# Altium integrated library SIMPLIS Devices.IntLib: 63 symbols
Pins are listed as number, name and electrical type; pins without a type are passive.

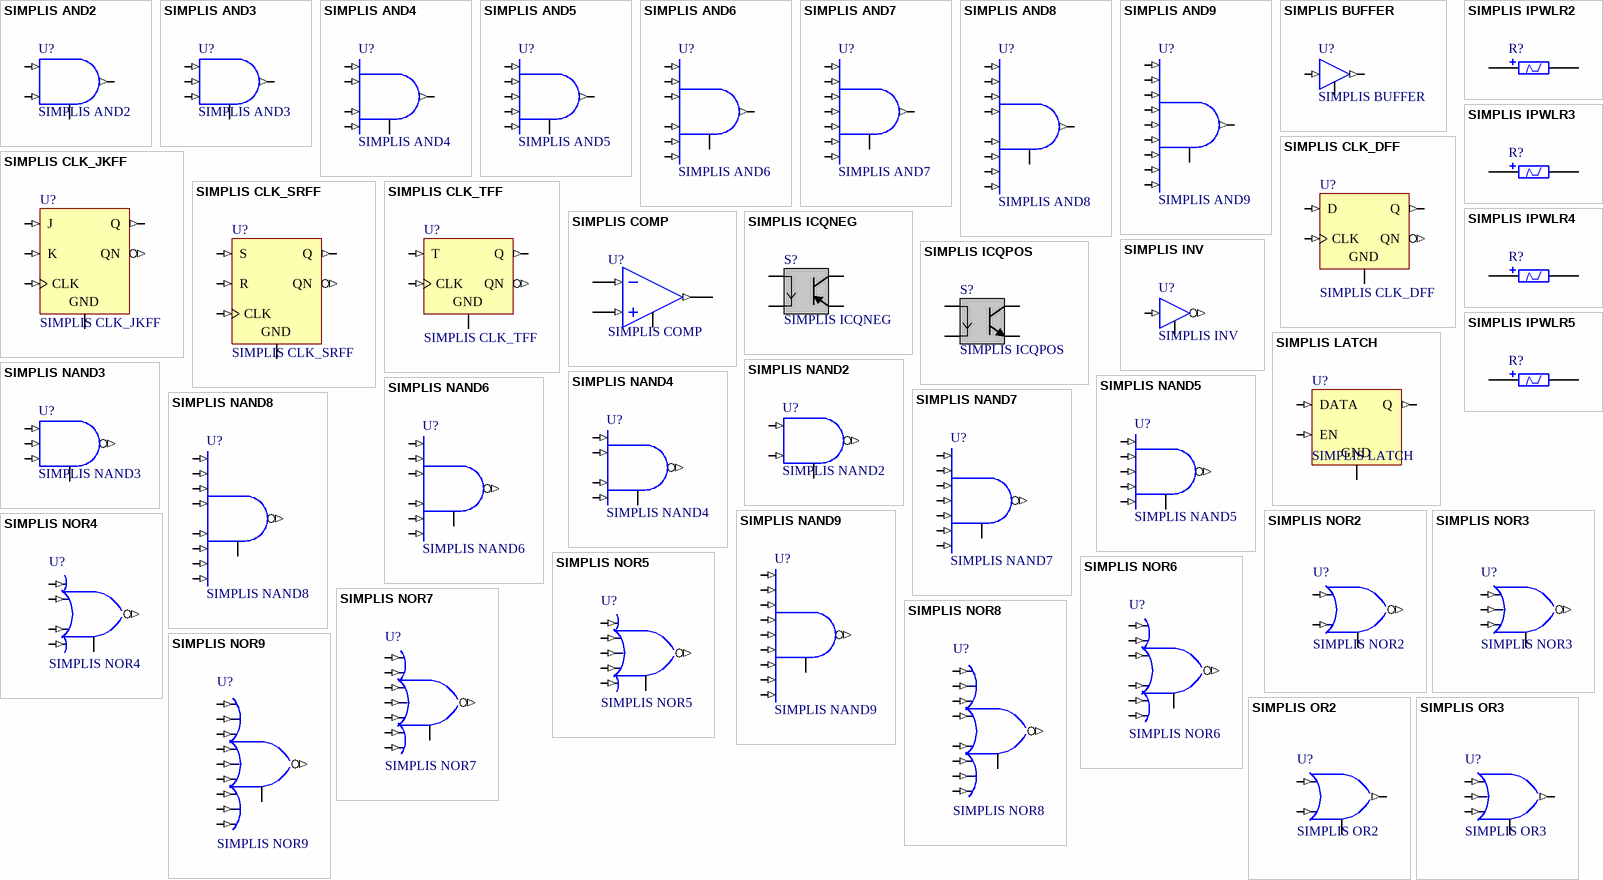
[diagram p0: symbols SIMPLIS AND2 to SIMPLIS OR3]

## SIMPLIS AND2
designator U?
2-Input AND Gate; FunctionalClass: Logic Primitive; PortSize: 2; PortStyle: Single Pin Version; ArchiveName: GENERIC; VHDLIB_SIM: GENERIC_LIB; Published: 29-Jan-2004; Publisher: Altium Limited; XilinxEquivalent: AND2; LastRevisionNo: 1.00.00; HelpURL: CR0118 FPGA Generic Library Guide.pdf#page=114; ComponentLink1URL: CR0136 FPGA Logic Primitive Resource Usage.pdf#page=13; ComponentLink1Description: Core &Resource Usage; SubClass: AND
simulation model SIMPLIS_AND2 (2-input AND Gate)
pins: 100 GND, 101 IN1 (in), 102 IN2 (in), 201 OUT (out)

## SIMPLIS AND3
designator U?
3-Input AND Gate; FunctionalClass: Logic Primitive; PortSize: 3; PortStyle: Single Pin Version; ArchiveName: GENERIC; VHDLIB_SIM: GENERIC_LIB; Published: 29-Jan-2004; Publisher: Altium Limited; XilinxEquivalent: AND3; LastRevisionNo: 1.00.00; HelpURL: CR0118 FPGA Generic Library Guide.pdf#page=114; ComponentLink1URL: CR0136 FPGA Logic Primitive Resource Usage.pdf#page=23; ComponentLink1Description: Core &Resource Usage; SubClass: AND
simulation model SIMPLIS_AND3 (3-input AND Gate)
pins: 100 GND, 101 IN1 (in), 102 IN2 (in), 103 IN3 (in), 201 OUT (out)

## SIMPLIS AND4
designator U?
4-Input AND Gate; FunctionalClass: Logic Primitive; PortSize: 4; PortStyle: Single Pin Version; ArchiveName: GENERIC; VHDLIB_SIM: GENERIC_LIB; Published: 29-Jan-2004; Publisher: Altium Limited; XilinxEquivalent: AND4; LastRevisionNo: 1.00.00; HelpURL: CR0118 FPGA Generic Library Guide.pdf#page=114; ComponentLink1URL: CR0136 FPGA Logic Primitive Resource Usage.pdf#page=35; ComponentLink1Description: Core &Resource Usage; SubClass: AND
simulation model SIMPLIS_AND4 (4-input AND Gate)
pins: 100 GND, 101 IN1 (in), 102 IN2 (in), 103 IN3 (in), 104 IN4 (in), 201 OUT (out)

## SIMPLIS AND5
designator U?
5-Input AND Gate; FunctionalClass: Logic Primitive; PortSize: 5; PortStyle: Single Pin Version; ArchiveName: GENERIC; VHDLIB_SIM: GENERIC_LIB; Published: 29-Jan-2004; Publisher: Altium Limited; XilinxEquivalent: AND5; LastRevisionNo: 1.00.00; HelpURL: CR0118 FPGA Generic Library Guide.pdf#page=114; ComponentLink1URL: CR0136 FPGA Logic Primitive Resource Usage.pdf#page=47; ComponentLink1Description: Core &Resource Usage; SubClass: AND
simulation model SIMPLIS_AND5 (5-input AND Gate)
pins: 100 GND, 101 IN1 (in), 102 IN2 (in), 103 IN3 (in), 104 IN4 (in), 105 IN5 (in), 201 OUT (out)

## SIMPLIS AND6
designator U?
6-Input AND Gate; FunctionalClass: Logic Primitive; PortSize: 6; PortStyle: Single Pin Version; ArchiveName: GENERIC; VHDLIB_SIM: GENERIC_LIB; Published: 29-Jan-2004; Publisher: Altium Limited; XilinxEquivalent: AND6; LastRevisionNo: 1.00.00; HelpURL: CR0118 FPGA Generic Library Guide.pdf#page=114; ComponentLink1URL: CR0136 FPGA Logic Primitive Resource Usage.pdf#page=49; ComponentLink1Description: Core &Resource Usage; SubClass: AND
simulation model SIMPLIS_AND6 (6-input AND Gate)
pins: 100 GND, 101 IN1 (in), 102 IN2 (in), 103 IN3 (in), 104 IN4 (in), 105 IN5 (in), 106 IN6 (in), 201 OUT (out)

## SIMPLIS AND7
designator U?
7-Input AND Gate; FunctionalClass: Logic Primitive; PortSize: 7; PortStyle: Single Pin Version; ArchiveName: GENERIC; VHDLIB_SIM: GENERIC_LIB; Published: 29-Jan-2004; Publisher: Altium Limited; XilinxEquivalent: AND7; LastRevisionNo: 1.00.00; HelpURL: CR0118 FPGA Generic Library Guide.pdf#page=114; ComponentLink1URL: CR0136 FPGA Logic Primitive Resource Usage.pdf#page=51; ComponentLink1Description: Core &Resource Usage; SubClass: AND
simulation model SIMPLIS_AND7 (7-input AND Gate)
pins: 100 GND, 101 IN1 (in), 102 IN2 (in), 103 IN3 (in), 104 IN4 (in), 105 IN5 (in), 106 IN6 (in), 107 IN7 (in), 201 OUT (out)

## SIMPLIS AND8
designator U?
8-Input AND Gate; FunctionalClass: Logic Primitive; PortSize: 8; PortStyle: Single Pin Version; ArchiveName: GENERIC; VHDLIB_SIM: GENERIC_LIB; Published: 29-Jan-2004; Publisher: Altium Limited; XilinxEquivalent: AND8; LastRevisionNo: 1.00.00; HelpURL: CR0118 FPGA Generic Library Guide.pdf#page=114; ComponentLink1URL: CR0136 FPGA Logic Primitive Resource Usage.pdf#page=53; ComponentLink1Description: Core &Resource Usage; SubClass: AND
simulation model SIMPLIS_AND8 (8-input AND Gate)
pins: 100 GND, 101 IN1 (in), 102 IN2 (in), 103 IN3 (in), 104 IN4 (in), 105 IN5 (in), 106 IN6 (in), 107 IN7 (in), 108 IN8 (in), 201 OUT (out)

## SIMPLIS AND9
designator U?
9-Input AND Gate; FunctionalClass: Logic Primitive; PortSize: 9; PortStyle: Single Pin Version; ArchiveName: GENERIC; VHDLIB_SIM: GENERIC_LIB; Published: 29-Jan-2004; Publisher: Altium Limited; XilinxEquivalent: AND9; LastRevisionNo: 1.00.00; HelpURL: CR0118 FPGA Generic Library Guide.pdf#page=114; ComponentLink1URL: CR0136 FPGA Logic Primitive Resource Usage.pdf#page=55; ComponentLink1Description: Core &Resource Usage; SubClass: AND
simulation model SIMPLIS_AND9 (9-input AND Gate)
pins: 100 GND, 101 IN1 (in), 102 IN2 (in), 103 IN3 (in), 104 IN4 (in), 105 IN5 (in), 106 IN6 (in), 107 IN7 (in), 108 IN8 (in), 109 IN9 (in), 201 OUT (out)

## SIMPLIS BUFFER
designator U?
Non-Inverting Buffer; XilinxEquivalent: BUF; ArchiveName: GENERIC; VHDLIB_SIM: GENERIC_LIB; Published: 29-Jan-2004; Publisher: Altium Limited; LastRevisionNo: 1.00.00; HelpURL: CR0118 FPGA Generic Library Guide.pdf#page=122; ComponentLink1URL: CR0125 FPGA Buffer Resource Usage.pdf#page=3; ComponentLink1Description: Core &Resource Usage; FunctionalClass: Buffer; SubClass: BUF
simulation model SIMPLIS_BUFFER (Buffer)
pins: 100 GND, 101 IN (in), 201 OUT (out)

## SIMPLIS CLK_DFF
designator U?
D-type Flip-Flop; SubClass: T; ClockTrigger: Rising; Enable: High; Reset: Asynchronous; FunctionalClass: Flip-Flop
simulation model SIMPLIS_DFF (D-type Flip-Flop)
pins: 100 GND, 101 D (in), 191 CLK (in), 201 Q (out), 202 QN (out)

## SIMPLIS CLK_JKFF
designator U?
J-K Flip-Flop; SubClass: JK; ClockTrigger: Rising; Reset: Asynchronous; ArchiveName: GENERIC; VHDLIB_SIM: GENERIC_LIB; Published: 29-Jan-2004; Publisher: Altium Limited; LastRevisionNo: 1.00.00; HelpURL: CR0118 FPGA Generic Library Guide.pdf#page=233; ComponentLink1URL: CR0133 FPGA Flip Flop Resource Usage.pdf#page=201; ComponentLink1Description: Core &Resource Usage; FunctionalClass: Flip-Flop
simulation model SIMPLIS_JKFF (JK Flip-Flop)
pins: 100 GND, 101 J (in), 102 K (in), 191 CLK (in), 201 Q (out), 202 QN (out)

## SIMPLIS CLK_SRFF
designator U?
S-R Flip-Flop; SubClass: JK; ClockTrigger: Rising; Reset: Asynchronous; ArchiveName: GENERIC; VHDLIB_SIM: GENERIC_LIB; Published: 29-Jan-2004; Publisher: Altium Limited; LastRevisionNo: 1.00.00; HelpURL: CR0118 FPGA Generic Library Guide.pdf#page=233; ComponentLink1URL: CR0133 FPGA Flip Flop Resource Usage.pdf#page=201; ComponentLink1Description: Core &Resource Usage; FunctionalClass: Flip-Flop
simulation model SIMPLIS_CLK_SRFF (SR Flip-Flop)
pins: 100 GND, 101 S (in), 102 R (in), 191 CLK (in), 201 Q (out), 202 QN (out)

## SIMPLIS CLK_TFF
designator U?
Toggle Flip-Flop; SubClass: T; ClockTrigger: Rising; Enable: High; Reset: Asynchronous; FunctionalClass: Flip-Flop
simulation model SIMPLIS_TFF (Toggle Flip-Flop)
simulation model SIMPLIS_TFF (Toggle Flip-Flop)
pins: 100 GND, 101 T (in), 191 CLK (in), 201 Q (out), 202 QN (out)

## SIMPLIS COMP
designator U?
Analog Voltage Comparator; XilinxEquivalent: XNOR2; FunctionalClass: Logic Primitive; SubClass: XNOR; PortSize: 2; PortStyle: Single Pin Version; ArchiveName: GENERIC; VHDLIB_SIM: GENERIC_LIB; Published: 29-Jan-2004; Publisher: Altium Limited; LastRevisionNo: 1.00.00; HelpURL: CR0118 FPGA Generic Library Guide.pdf#page=445; ComponentLink1URL: CR0136 FPGA Logic Primitive Resource Usage.pdf#page=252; ComponentLink1Description: Core &Resource Usage
simulation model SIMPLIS_COMP (Comparator)
pins: 100 GND, 101 IN+ (in), 102 IN- (in), 201 OUT (out)

## SIMPLIS ICQNEG
designator S?
Current Controlled Transistor Switch; Published: 8-Jun-2000; LatestRevisionDate: 17-Jul-2002; LatestRevisionNote: Re-released for DXP Platform.; PackageReference: Not Applicable; Publisher: Altium Limited
simulation model SIMPLIS_ICQNEG (current-controlled transistor switch)
pins: 1 N1+, 2 N1-, 3 N2+, 4 N2-

## SIMPLIS ICQPOS
designator S?
Current Controlled Transistor Switch; Published: 8-Jun-2000; LatestRevisionDate: 17-Jul-2002; LatestRevisionNote: Re-released for DXP Platform.; PackageReference: Not Applicable; Publisher: Altium Limited
simulation model SIMPLIS_ICQPOS (current-controlled transistor switch)
pins: 1 N1+, 2 N1-, 3 N2+, 4 N2-

## SIMPLIS INV
designator U?
Inverter; FunctionalClass: Logic Primitive; ArchiveName: GENERIC; VHDLIB_SIM: GENERIC_LIB; Published: 29-Jan-2004; Publisher: Altium Limited; XilinxEquivalent: INV; LastRevisionNo: 1.00.00; HelpURL: CR0118 FPGA Generic Library Guide.pdf#page=291; ComponentLink1URL: CR0136 FPGA Logic Primitive Resource Usage.pdf#page=61; ComponentLink1Description: Core &Resource Usage; SubClass: INV
simulation model SIMPLIS_INV (Inverter)
pins: 100 GND, 101 IN1 (in), 201 OUT (out)

## SIMPLIS IPWLR2
designator R?  (value not drawn)
Current-Controlled Piecewise Linear Resistor (2-segment); Published: 24-Mar-1999; LatestRevisionDate: 04-Mar-2005; LatestRevisionNote: PCB Footprint replaced.; PackageReference: 6-0805; Publisher: Altium Limited
simulation model SIMPLIS_IPWLR2 (Current-controlled piecewise linear resistor)
pins: 1, 2

## SIMPLIS IPWLR3
designator R?  (value not drawn)
Current-Controlled Piecewise Linear Resistor (3-segment); Published: 24-Mar-1999; LatestRevisionDate: 04-Mar-2005; LatestRevisionNote: PCB Footprint replaced.; PackageReference: 6-0805; Publisher: Altium Limited
simulation model SIMPLIS_IPWLR3 (Current-controlled piecewise linear resistor)
pins: 1, 2

## SIMPLIS IPWLR4
designator R?  (value not drawn)
Current-Controlled Piecewise Linear Resistor (4-segment); Published: 24-Mar-1999; LatestRevisionDate: 04-Mar-2005; LatestRevisionNote: PCB Footprint replaced.; PackageReference: 6-0805; Publisher: Altium Limited
simulation model SIMPLIS_IPWLR4 (Current-controlled piecewise linear resistor)
pins: 1, 2

## SIMPLIS IPWLR5
designator R?  (value not drawn)
Current-Controlled Piecewise Linear Resistor (5-segment); Published: 24-Mar-1999; LatestRevisionDate: 04-Mar-2005; LatestRevisionNote: PCB Footprint replaced.; PackageReference: 6-0805; Publisher: Altium Limited
simulation model SIMPLIS_IPWLR5 (Current-controlled piecewise linear resistor)
pins: 1, 2

## SIMPLIS LATCH
designator U?
Transparent Data Latch; XilinxEquivalent: LD; ArchiveName: GENERIC; VHDLIB_SIM: GENERIC_LIB; Published: 29-Jan-2004; Publisher: Altium Limited; LastRevisionNo: 1.00.00; HelpURL: CR0118 FPGA Generic Library Guide.pdf#page=310; ComponentLink1URL: CR0135 FPGA Latch Resource Usage.pdf#page=2; ComponentLink1Description: Core &Resource Usage; FunctionalClass: Latch
simulation model SIMPLIS_LATCH (LATCH)
pins: 100 GND, 101 DATA (in), 191 EN (in), 201 Q (out)

## SIMPLIS NAND2
designator U?
2-Input NAND Gate; FunctionalClass: Logic Primitive; PortSize: 2; PortStyle: Single Pin Version; ArchiveName: GENERIC; VHDLIB_SIM: GENERIC_LIB; Published: 29-Jan-2004; Publisher: Altium Limited; XilinxEquivalent: NAND2; LastRevisionNo: 1.00.00; HelpURL: CR0118 FPGA Generic Library Guide.pdf#page=402; ComponentLink1URL: CR0136 FPGA Logic Primitive Resource Usage.pdf#page=90; ComponentLink1Description: Core &Resource Usage; SubClass: NAND
simulation model SIMPLIS_NAND2 (2-input NAND Gate)
pins: 100 GND, 101 IN1 (in), 102 IN2 (in), 201 OUT (out)

## SIMPLIS NAND3
designator U?
3-Input NAND Gate; FunctionalClass: Logic Primitive; PortSize: 3; PortStyle: Single Pin Version; ArchiveName: GENERIC; VHDLIB_SIM: GENERIC_LIB; Published: 29-Jan-2004; Publisher: Altium Limited; XilinxEquivalent: NAND3; LastRevisionNo: 1.00.00; HelpURL: CR0118 FPGA Generic Library Guide.pdf#page=402; ComponentLink1URL: CR0136 FPGA Logic Primitive Resource Usage.pdf#page=98; ComponentLink1Description: Core &Resource Usage; SubClass: NAND
simulation model SIMPLIS_NAND3 (3-input NAND Gate)
pins: 100 GND, 101 IN1 (in), 102 IN2 (in), 103 IN3 (in), 201 OUT (out)

## SIMPLIS NAND4
designator U?
4-Input NAND Gate; FunctionalClass: Logic Primitive; PortSize: 4; PortStyle: Single Pin Version; ArchiveName: GENERIC; VHDLIB_SIM: GENERIC_LIB; Published: 29-Jan-2004; Publisher: Altium Limited; XilinxEquivalent: NAND4; LastRevisionNo: 1.00.00; HelpURL: CR0118 FPGA Generic Library Guide.pdf#page=402; ComponentLink1URL: CR0136 FPGA Logic Primitive Resource Usage.pdf#page=108; ComponentLink1Description: Core &Resource Usage; SubClass: NAND
simulation model SIMPLIS_NAND4 (4-input NAND Gate)
pins: 100 GND, 101 IN1 (in), 102 IN2 (in), 103 IN3 (in), 104 IN4 (in), 201 OUT (out)

## SIMPLIS NAND5
designator U?
5-Input NAND Gate; FunctionalClass: Logic Primitive; PortSize: 5; PortStyle: Single Pin Version; ArchiveName: GENERIC; VHDLIB_SIM: GENERIC_LIB; Published: 29-Jan-2004; Publisher: Altium Limited; XilinxEquivalent: NAND5; LastRevisionNo: 1.00.00; HelpURL: CR0118 FPGA Generic Library Guide.pdf#page=402; ComponentLink1URL: CR0136 FPGA Logic Primitive Resource Usage.pdf#page=120; ComponentLink1Description: Core &Resource Usage; SubClass: NAND
simulation model SIMPLIS_NAND5 (5-input NAND Gate)
pins: 100 GND, 101 IN1 (in), 102 IN2 (in), 103 IN3 (in), 104 IN4 (in), 105 IN5 (in), 201 OUT (out)

## SIMPLIS NAND6
designator U?
6-Input NAND Gate; FunctionalClass: Logic Primitive; PortSize: 6; PortStyle: Single Pin Version; ArchiveName: GENERIC; VHDLIB_SIM: GENERIC_LIB; Published: 29-Jan-2004; Publisher: Altium Limited; XilinxEquivalent: NAND6; LastRevisionNo: 1.00.00; HelpURL: CR0118 FPGA Generic Library Guide.pdf#page=402; ComponentLink1URL: CR0136 FPGA Logic Primitive Resource Usage.pdf#page=122; ComponentLink1Description: Core &Resource Usage; SubClass: NAND
simulation model SIMPLIS_NAND6 (6-input NAND Gate)
pins: 100 GND, 101 IN1 (in), 102 IN2 (in), 103 IN3 (in), 104 IN4 (in), 105 IN5 (in), 106 IN6 (in), 201 OUT (out)

## SIMPLIS NAND7
designator U?
7-Input NAND Gate; FunctionalClass: Logic Primitive; PortSize: 7; PortStyle: Single Pin Version; ArchiveName: GENERIC; VHDLIB_SIM: GENERIC_LIB; Published: 29-Jan-2004; Publisher: Altium Limited; XilinxEquivalent: NAND7; LastRevisionNo: 1.00.00; HelpURL: CR0118 FPGA Generic Library Guide.pdf#page=402; ComponentLink1URL: CR0136 FPGA Logic Primitive Resource Usage.pdf#page=124; ComponentLink1Description: Core &Resource Usage; SubClass: NAND
simulation model SIMPLIS_NAND7 (7-input NAND Gate)
pins: 100 GND, 101 IN1 (in), 102 IN2 (in), 103 IN3 (in), 104 IN4 (in), 105 IN5 (in), 106 IN6 (in), 107 IN7 (in), 201 OUT (out)

## SIMPLIS NAND8
designator U?
8-Input NAND Gate; FunctionalClass: Logic Primitive; PortSize: 8; PortStyle: Single Pin Version; ArchiveName: GENERIC; VHDLIB_SIM: GENERIC_LIB; Published: 29-Jan-2004; Publisher: Altium Limited; XilinxEquivalent: NAND8; LastRevisionNo: 1.00.00; HelpURL: CR0118 FPGA Generic Library Guide.pdf#page=402; ComponentLink1URL: CR0136 FPGA Logic Primitive Resource Usage.pdf#page=126; ComponentLink1Description: Core &Resource Usage; SubClass: NAND
simulation model SIMPLIS_NAND8 (8-input NAND Gate)
pins: 100 GND, 101 IN1 (in), 102 IN2 (in), 103 IN3 (in), 104 IN4 (in), 105 IN5 (in), 106 IN6 (in), 107 IN7 (in), 108 IN8 (in), 201 OUT (out)

## SIMPLIS NAND9
designator U?
9-Input NAND Gate; FunctionalClass: Logic Primitive; PortSize: 9; PortStyle: Single Pin Version; ArchiveName: GENERIC; VHDLIB_SIM: GENERIC_LIB; Published: 29-Jan-2004; Publisher: Altium Limited; XilinxEquivalent: NAND9; LastRevisionNo: 1.00.00; HelpURL: CR0118 FPGA Generic Library Guide.pdf#page=402; ComponentLink1URL: CR0136 FPGA Logic Primitive Resource Usage.pdf#page=128; ComponentLink1Description: Core &Resource Usage; SubClass: NAND
simulation model SIMPLIS_NAND9 (9-input NAND Gate)
pins: 100 GND, 101 IN1 (in), 102 IN2 (in), 103 IN3 (in), 104 IN4 (in), 105 IN5 (in), 106 IN6 (in), 107 IN7 (in), 108 IN8 (in), 109 IN9 (in), 201 OUT (out)

## SIMPLIS NOR2
designator U?
2-Input NOR Gate; FunctionalClass: Logic Primitive; PortSize: 2; PortStyle: Single Pin Version; ArchiveName: GENERIC; VHDLIB_SIM: GENERIC_LIB; Published: 29-Jan-2004; Publisher: Altium Limited; XilinxEquivalent: NOR2; LastRevisionNo: 1.00.00; HelpURL: CR0118 FPGA Generic Library Guide.pdf#page=406; ComponentLink1URL: CR0136 FPGA Logic Primitive Resource Usage.pdf#page=139; ComponentLink1Description: Core &Resource Usage; SubClass: NOR
simulation model SIMPLIS_NOR2 (2-input NOR Gate)
pins: 100 GND, 101 IN1 (in), 102 IN2 (in), 201 OUT (out)

## SIMPLIS NOR3
designator U?
3-Input NOR Gate; FunctionalClass: Logic Primitive; PortSize: 3; PortStyle: Single Pin Version; ArchiveName: GENERIC; VHDLIB_SIM: GENERIC_LIB; Published: 29-Jan-2004; Publisher: Altium Limited; XilinxEquivalent: NOR3; LastRevisionNo: 1.00.00; HelpURL: CR0118 FPGA Generic Library Guide.pdf#page=406; ComponentLink1URL: CR0136 FPGA Logic Primitive Resource Usage.pdf#page=147; ComponentLink1Description: Core &Resource Usage; SubClass: NOR
simulation model SIMPLIS_NOR3 (3-input NOR Gate)
pins: 100 GND, 101 IN1 (in), 102 IN2 (in), 103 IN3 (in), 201 OUT (out)

## SIMPLIS NOR4
designator U?
4-Input NOR Gate; FunctionalClass: Logic Primitive; PortSize: 4; PortStyle: Single Pin Version; ArchiveName: GENERIC; VHDLIB_SIM: GENERIC_LIB; Published: 29-Jan-2004; Publisher: Altium Limited; XilinxEquivalent: NOR4; LastRevisionNo: 1.00.00; HelpURL: CR0118 FPGA Generic Library Guide.pdf#page=406; ComponentLink1URL: CR0136 FPGA Logic Primitive Resource Usage.pdf#page=157; ComponentLink1Description: Core &Resource Usage; SubClass: NOR
simulation model SIMPLIS_NOR4 (4-input NOR Gate)
pins: 100 GND, 101 IN1 (in), 102 IN2 (in), 103 IN3 (in), 104 IN4 (in), 201 OUT (out)

## SIMPLIS NOR5
designator U?
5-Input NOR Gate; FunctionalClass: Logic Primitive; PortSize: 5; PortStyle: Single Pin Version; ArchiveName: GENERIC; VHDLIB_SIM: GENERIC_LIB; Published: 29-Jan-2004; Publisher: Altium Limited; XilinxEquivalent: NOR5; LastRevisionNo: 1.00.00; HelpURL: CR0118 FPGA Generic Library Guide.pdf#page=406; ComponentLink1URL: CR0136 FPGA Logic Primitive Resource Usage.pdf#page=169; ComponentLink1Description: Core &Resource Usage; SubClass: NOR
simulation model SIMPLIS_NOR5 (5-input NOR Gate)
pins: 100 GND, 101 IN1 (in), 102 IN2 (in), 103 IN3 (in), 104 IN4 (in), 105 IN5 (in), 201 OUT (out)

## SIMPLIS NOR6
designator U?
6-Input NOR Gate; FunctionalClass: Logic Primitive; PortSize: 6; PortStyle: Single Pin Version; ArchiveName: GENERIC; VHDLIB_SIM: GENERIC_LIB; Published: 29-Jan-2004; Publisher: Altium Limited; XilinxEquivalent: NOR6; LastRevisionNo: 1.00.00; HelpURL: CR0118 FPGA Generic Library Guide.pdf#page=406; ComponentLink1URL: CR0136 FPGA Logic Primitive Resource Usage.pdf#page=171; ComponentLink1Description: Core &Resource Usage; SubClass: NOR
simulation model SIMPLIS_NOR6 (6-input NOR Gate)
pins: 100 GND, 101 IN1 (in), 102 IN2 (in), 103 IN3 (in), 104 IN4 (in), 105 IN5 (in), 106 IN6 (in), 201 OUT (out)

## SIMPLIS NOR7
designator U?
7-Input NOR Gate; FunctionalClass: Logic Primitive; PortSize: 7; PortStyle: Single Pin Version; ArchiveName: GENERIC; VHDLIB_SIM: GENERIC_LIB; Published: 29-Jan-2004; Publisher: Altium Limited; XilinxEquivalent: NOR7; LastRevisionNo: 1.00.00; HelpURL: CR0118 FPGA Generic Library Guide.pdf#page=406; ComponentLink1URL: CR0136 FPGA Logic Primitive Resource Usage.pdf#page=173; ComponentLink1Description: Core &Resource Usage; SubClass: NOR
simulation model SIMPLIS_NOR7 (7-input NOR Gate)
pins: 100 GND, 101 IN1 (in), 102 IN2 (in), 103 IN3 (in), 104 IN4 (in), 105 IN5 (in), 106 IN6 (in), 107 IN7 (in), 201 OUT (out)

## SIMPLIS NOR8
designator U?
8-Input NOR Gate; FunctionalClass: Logic Primitive; PortSize: 8; PortStyle: Single Pin Version; ArchiveName: GENERIC; VHDLIB_SIM: GENERIC_LIB; Published: 29-Jan-2004; Publisher: Altium Limited; XilinxEquivalent: NOR8; LastRevisionNo: 1.00.00; HelpURL: CR0118 FPGA Generic Library Guide.pdf#page=406; ComponentLink1URL: CR0136 FPGA Logic Primitive Resource Usage.pdf#page=175; ComponentLink1Description: Core &Resource Usage; SubClass: NOR
simulation model SIMPLIS_NOR8 (8-input NOR Gate)
pins: 100 GND, 101 IN1 (in), 102 IN2 (in), 103 IN3 (in), 104 IN4 (in), 105 IN5 (in), 106 IN6 (in), 107 IN7 (in), 108 IN8 (in), 201 OUT (out)

## SIMPLIS NOR9
designator U?
9-Input NOR Gate; FunctionalClass: Logic Primitive; PortSize: 9; PortStyle: Single Pin Version; ArchiveName: GENERIC; VHDLIB_SIM: GENERIC_LIB; Published: 29-Jan-2004; Publisher: Altium Limited; XilinxEquivalent: NOR9; LastRevisionNo: 1.00.00; HelpURL: CR0118 FPGA Generic Library Guide.pdf#page=406; ComponentLink1URL: CR0136 FPGA Logic Primitive Resource Usage.pdf#page=177; ComponentLink1Description: Core &Resource Usage; SubClass: NOR
simulation model SIMPLIS_NOR9 (9-input NOR Gate)
pins: 100 GND, 101 IN1 (in), 102 IN2 (in), 103 IN3 (in), 104 IN4 (in), 105 IN5 (in), 106 IN6 (in), 107 IN7 (in), 108 IN8 (in), 109 IN9 (in), 201 OUT (out)

## SIMPLIS OR2
designator U?
2-Input OR Gate; FunctionalClass: Logic Primitive; PortSize: 2; PortStyle: Single Pin Version; ArchiveName: GENERIC; VHDLIB_SIM: GENERIC_LIB; Published: 29-Jan-2004; Publisher: Altium Limited; XilinxEquivalent: OR2; LastRevisionNo: 1.00.00; HelpURL: CR0118 FPGA Generic Library Guide.pdf#page=410; ComponentLink1URL: CR0136 FPGA Logic Primitive Resource Usage.pdf#page=190; ComponentLink1Description: Core &Resource Usage; SubClass: OR
simulation model SIMPLIS_OR2 (2-input OR Gate)
pins: 100 GND, 101 IN1 (in), 102 IN2 (in), 201 OUT (out)

## SIMPLIS OR3
designator U?
3-Input OR Gate; FunctionalClass: Logic Primitive; PortSize: 3; PortStyle: Single Pin Version; ArchiveName: GENERIC; VHDLIB_SIM: GENERIC_LIB; Published: 29-Jan-2004; Publisher: Altium Limited; XilinxEquivalent: OR3; LastRevisionNo: 1.00.00; HelpURL: CR0118 FPGA Generic Library Guide.pdf#page=410; ComponentLink1URL: CR0136 FPGA Logic Primitive Resource Usage.pdf#page=200; ComponentLink1Description: Core &Resource Usage; SubClass: OR
simulation model SIMPLIS_OR3 (3-input OR Gate)
pins: 100 GND, 101 IN1 (in), 102 IN2 (in), 103 IN3 (in), 201 OUT (out)

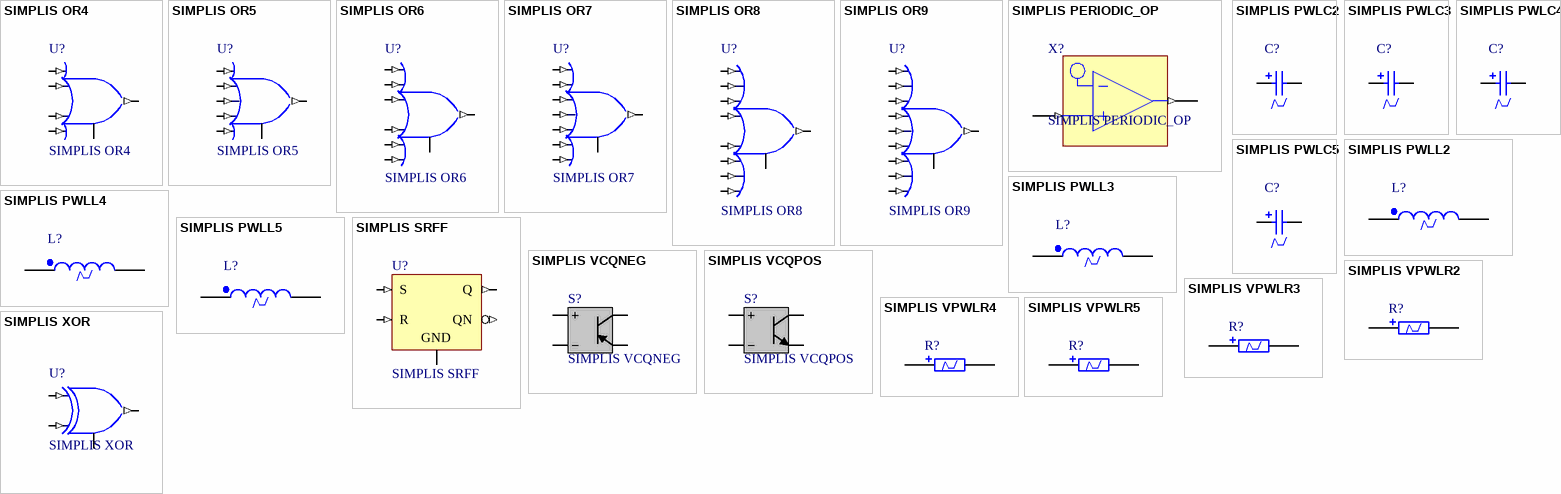
[diagram p1: symbols SIMPLIS OR4 to SIMPLIS XOR]

## SIMPLIS OR4
designator U?
4-Input OR Gate; FunctionalClass: Logic Primitive; PortSize: 4; PortStyle: Single Pin Version; ArchiveName: GENERIC; VHDLIB_SIM: GENERIC_LIB; Published: 29-Jan-2004; Publisher: Altium Limited; XilinxEquivalent: OR4; LastRevisionNo: 1.00.00; HelpURL: CR0118 FPGA Generic Library Guide.pdf#page=410; ComponentLink1URL: CR0136 FPGA Logic Primitive Resource Usage.pdf#page=212; ComponentLink1Description: Core &Resource Usage; SubClass: OR
simulation model SIMPLIS_OR4 (4-input OR Gate)
pins: 100 GND, 101 IN1 (in), 102 IN2 (in), 103 IN3 (in), 104 IN4 (in), 201 OUT (out)

## SIMPLIS OR5
designator U?
5-Input OR Gate; FunctionalClass: Logic Primitive; PortSize: 5; PortStyle: Single Pin Version; ArchiveName: GENERIC; VHDLIB_SIM: GENERIC_LIB; Published: 29-Jan-2004; Publisher: Altium Limited; XilinxEquivalent: OR5; LastRevisionNo: 1.00.00; HelpURL: CR0118 FPGA Generic Library Guide.pdf#page=410; ComponentLink1URL: CR0136 FPGA Logic Primitive Resource Usage.pdf#page=224; ComponentLink1Description: Core &Resource Usage; SubClass: OR
simulation model SIMPLIS_OR5 (5-input OR Gate)
pins: 100 GND, 101 IN1 (in), 102 IN2 (in), 103 IN3 (in), 104 IN4 (in), 105 IN5 (in), 201 OUT (out)

## SIMPLIS OR6
designator U?
6-Input OR Gate; FunctionalClass: Logic Primitive; PortSize: 6; PortStyle: Single Pin Version; ArchiveName: GENERIC; VHDLIB_SIM: GENERIC_LIB; Published: 29-Jan-2004; Publisher: Altium Limited; XilinxEquivalent: OR6; LastRevisionNo: 1.00.00; HelpURL: CR0118 FPGA Generic Library Guide.pdf#page=410; ComponentLink1URL: CR0136 FPGA Logic Primitive Resource Usage.pdf#page=226; ComponentLink1Description: Core &Resource Usage; SubClass: OR
simulation model SIMPLIS_OR6 (6-input OR Gate)
pins: 100 GND, 101 IN1 (in), 102 IN2 (in), 103 IN3 (in), 104 IN4 (in), 105 IN5 (in), 106 IN6 (in), 201 OUT (out)

## SIMPLIS OR7
designator U?
7-Input OR Gate; FunctionalClass: Logic Primitive; PortSize: 7; PortStyle: Single Pin Version; ArchiveName: GENERIC; VHDLIB_SIM: GENERIC_LIB; Published: 29-Jan-2004; Publisher: Altium Limited; XilinxEquivalent: OR7; LastRevisionNo: 1.00.00; HelpURL: CR0118 FPGA Generic Library Guide.pdf#page=410; ComponentLink1URL: CR0136 FPGA Logic Primitive Resource Usage.pdf#page=228; ComponentLink1Description: Core &Resource Usage; SubClass: OR
simulation model SIMPLIS_OR7 (7-input OR Gate)
pins: 100 GND, 101 IN1 (in), 102 IN2 (in), 103 IN3 (in), 104 IN4 (in), 105 IN5 (in), 106 IN6 (in), 107 IN7 (in), 201 OUT (out)

## SIMPLIS OR8
designator U?
8-Input OR Gate; FunctionalClass: Logic Primitive; PortSize: 8; PortStyle: Single Pin Version; ArchiveName: GENERIC; VHDLIB_SIM: GENERIC_LIB; Published: 29-Jan-2004; Publisher: Altium Limited; XilinxEquivalent: OR8; LastRevisionNo: 1.00.00; HelpURL: CR0118 FPGA Generic Library Guide.pdf#page=410; ComponentLink1URL: CR0136 FPGA Logic Primitive Resource Usage.pdf#page=230; ComponentLink1Description: Core &Resource Usage; SubClass: OR
simulation model SIMPLIS_OR8 (8-input OR Gate)
pins: 100 GND, 101 IN1 (in), 102 IN2 (in), 103 IN3 (in), 104 IN4 (in), 105 IN5 (in), 106 IN6 (in), 107 IN7 (in), 108 IN8 (in), 201 OUT (out)

## SIMPLIS OR9
designator U?
9-Input OR Gate; FunctionalClass: Logic Primitive; PortSize: 9; PortStyle: Single Pin Version; ArchiveName: GENERIC; VHDLIB_SIM: GENERIC_LIB; Published: 29-Jan-2004; Publisher: Altium Limited; XilinxEquivalent: OR9; LastRevisionNo: 1.00.00; HelpURL: CR0118 FPGA Generic Library Guide.pdf#page=410; ComponentLink1URL: CR0136 FPGA Logic Primitive Resource Usage.pdf#page=232; ComponentLink1Description: Core &Resource Usage; SubClass: OR
simulation model SIMPLIS_OR9 (9-input OR Gate)
pins: 100 GND, 101 IN1 (in), 102 IN2 (in), 103 IN3 (in), 104 IN4 (in), 105 IN5 (in), 106 IN6 (in), 107 IN7 (in), 108 IN8 (in), 109 IN9 (in), 201 OUT (out)

## SIMPLIS PERIODIC_OP
designator X?
Periodic Operating Point Analysis Trigger; XilinxEquivalent: XNOR2; FunctionalClass: Logic Primitive; SubClass: XNOR; PortSize: 2; PortStyle: Single Pin Version; ArchiveName: GENERIC; VHDLIB_SIM: GENERIC_LIB; Published: 29-Jan-2004; Publisher: Altium Limited; LastRevisionNo: 1.00.00; HelpURL: CR0118 FPGA Generic Library Guide.pdf#page=445; ComponentLink1URL: CR0136 FPGA Logic Primitive Resource Usage.pdf#page=252; ComponentLink1Description: Core &Resource Usage
simulation model SIMPLIS_PERIODIC_OP (Periodic Operating Point Analysis Trigger)
pins: 1 IN (in), 3 OUT (out)

## SIMPLIS PWLC2
designator C?  (value not drawn)
Piecewise Linear Capacitor (2-segment); Published: 8-Jun-2000; LatestRevisionDate: 17-Jul-2002; LatestRevisionNote: Re-released for DXP Platform.; PackageReference: RB7.6-15; Publisher: Altium Limited
simulation model SIMPLIS_PWLC2 (Piecewise linear capacitor)
pins: 1, 2
1 alternate drawing of the same symbol

## SIMPLIS PWLC3
designator C?  (value not drawn)
Piecewise Linear Capacitor (3-segment); Published: 8-Jun-2000; LatestRevisionDate: 17-Jul-2002; LatestRevisionNote: Re-released for DXP Platform.; PackageReference: RB7.6-15; Publisher: Altium Limited
simulation model SIMPLIS_PWLC3 (Piecewise linear capacitor)
pins: 1, 2
1 alternate drawing of the same symbol

## SIMPLIS PWLC4
designator C?  (value not drawn)
Piecewise Linear Capacitor (4-segment); Published: 8-Jun-2000; LatestRevisionDate: 17-Jul-2002; LatestRevisionNote: Re-released for DXP Platform.; PackageReference: RB7.6-15; Publisher: Altium Limited
simulation model SIMPLIS_PWLC4 (Piecewise linear capacitor)
pins: 1, 2
1 alternate drawing of the same symbol

## SIMPLIS PWLC5
designator C?  (value not drawn)
Piecewise Linear Capacitor (5-segment); Published: 8-Jun-2000; LatestRevisionDate: 17-Jul-2002; LatestRevisionNote: Re-released for DXP Platform.; PackageReference: RB7.6-15; Publisher: Altium Limited
simulation model SIMPLIS_PWLC5 (Piecewise linear capacitor)
pins: 1, 2
1 alternate drawing of the same symbol

## SIMPLIS PWLL2
designator L?  (value not drawn)
Piecewise Linear Inductor (2-segment); Published: 24-Mar-1999; LatestRevisionDate: 17-Jul-2002; LatestRevisionNote: Re-released for DXP Platform.; PackageReference: DIODE_SMC; Publisher: Altium Limited
simulation model SIMPLIS_PWLL2 (Piecewise Linear Inductor (2-segment))
pins: 1, 2

## SIMPLIS PWLL3
designator L?  (value not drawn)
Piecewise Linear Inductor (3segment); Published: 24-Mar-1999; LatestRevisionDate: 17-Jul-2002; LatestRevisionNote: Re-released for DXP Platform.; PackageReference: DIODE_SMC; Publisher: Altium Limited
simulation model SIMPLIS_PWLL3 (Piecewise Linear Inductor (3-segment))
pins: 1, 2

## SIMPLIS PWLL4
designator L?  (value not drawn)
Piecewise Linear Inductor (4-segment); Published: 24-Mar-1999; LatestRevisionDate: 17-Jul-2002; LatestRevisionNote: Re-released for DXP Platform.; PackageReference: DIODE_SMC; Publisher: Altium Limited
simulation model SIMPLIS_PWLL4 (Piecewise Linear Inductor (4-segment))
pins: 1, 2

## SIMPLIS PWLL5
designator L?  (value not drawn)
Piecewise Linear Inductor (5-segment); Published: 24-Mar-1999; LatestRevisionDate: 17-Jul-2002; LatestRevisionNote: Re-released for DXP Platform.; PackageReference: DIODE_SMC; Publisher: Altium Limited
simulation model SIMPLIS_PWLL5 (Piecewise Linear Inductor (5-segment))
pins: 1, 2

## SIMPLIS SRFF
designator U?
Transparent S-R Latch; FunctionalClass: Flip-Flop; SubClass: T; ClockTrigger: Rising; Enable: High; Reset: Asynchronous
simulation model SIMPLIS_SRFF (SR Flip-Flop)
pins: 100 GND, 101 S (in), 102 R (in), 201 Q (out), 202 QN (out)

## SIMPLIS VCQNEG
designator S?
Voltage Controlled Transistor Switch; Published: 8-Jun-2000; LatestRevisionDate: 17-Jul-2002; LatestRevisionNote: Re-released for DXP Platform.; PackageReference: Not Applicable; Publisher: Altium Limited
simulation model SIMPLIS_VCQNEG (voltage-controlled transistor switch)
pins: 1 N1+, 2 N1-, 3 N2+, 4 N2-

## SIMPLIS VCQPOS
designator S?
Voltage Controlled Transistor Switch; Published: 8-Jun-2000; LatestRevisionDate: 17-Jul-2002; LatestRevisionNote: Re-released for DXP Platform.; PackageReference: Not Applicable; Publisher: Altium Limited
simulation model SIMPLIS_VCQPOS (voltage-controlled transistor switch)
pins: 1 N1+, 2 N1-, 3 N2+, 4 N2-

## SIMPLIS VPWLR2
designator R?  (value not drawn)
Voltage-Controlled Piecewise Linear Resistor (2-segment); Published: 24-Mar-1999; LatestRevisionDate: 04-Mar-2005; LatestRevisionNote: PCB Footprint replaced.; PackageReference: 6-0805; Publisher: Altium Limited
simulation model SIMPLIS_VPWLR2 (Voltage-controlled piecewise linear resistor)
pins: 1, 2

## SIMPLIS VPWLR3
designator R?  (value not drawn)
Voltage-Controlled Piecewise Linear Resistor (3-segment); Published: 24-Mar-1999; LatestRevisionDate: 04-Mar-2005; LatestRevisionNote: PCB Footprint replaced.; PackageReference: 6-0805; Publisher: Altium Limited
simulation model SIMPLIS_VPWLR3 (Voltage-controlled piecewise linear resistor)
pins: 1, 2

## SIMPLIS VPWLR4
designator R?  (value not drawn)
Voltage-Controlled Piecewise Linear Resistor (4-segment); Published: 24-Mar-1999; LatestRevisionDate: 04-Mar-2005; LatestRevisionNote: PCB Footprint replaced.; PackageReference: 6-0805; Publisher: Altium Limited
simulation model SIMPLIS_VPWLR4 (Voltage-controlled piecewise linear resistor)
pins: 1, 2

## SIMPLIS VPWLR5
designator R?  (value not drawn)
Voltage-Controlled Piecewise Linear Resistor (5-segment); Published: 24-Mar-1999; LatestRevisionDate: 04-Mar-2005; LatestRevisionNote: PCB Footprint replaced.; PackageReference: 6-0805; Publisher: Altium Limited
simulation model SIMPLIS_VPWLR5 (Voltage-controlled piecewise linear resistor)
pins: 1, 2

## SIMPLIS XOR
designator U?
2-Input Exclusive-OR Gate; XilinxEquivalent: XOR2; FunctionalClass: Logic Primitive; PortSize: 2; PortStyle: Single Pin Version; ArchiveName: GENERIC; VHDLIB_SIM: GENERIC_LIB; Published: 29-Jan-2004; Publisher: Altium Limited; LastRevisionNo: 1.00.00; HelpURL: CR0118 FPGA Generic Library Guide.pdf#page=448; ComponentLink1URL: CR0136 FPGA Logic Primitive Resource Usage.pdf#page=301; ComponentLink1Description: Core &Resource Usage; SubClass: XOR
simulation model SIMPLIS_XOR (2-input XOR Gate)
pins: 100 GND, 101 IN1 (in), 102 IN2 (in), 201 OUT (out)